# EAGLE library part ESP32-TTGO-TDISPLAY (library EPS32_TTGO_TDISPLAY)
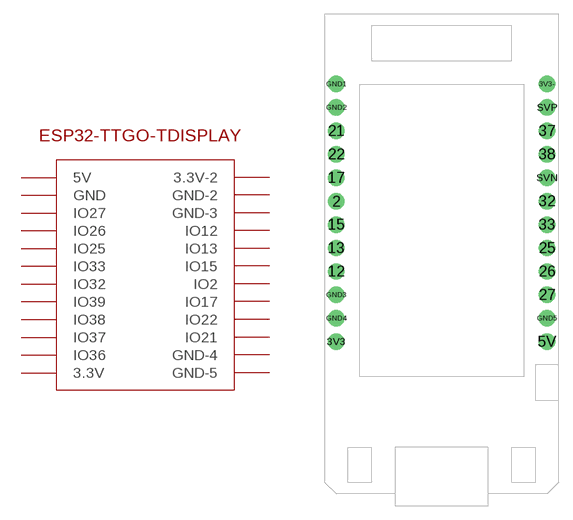
[diagram p0: symbol with the pads of ESP32-TTGO-TDISPLAY; footprint ESP32-TTGO-TDISPLAY]

Designator prefix -

## ESP32-TTGO-TDISPLAY  [ESP32-TTGO-TDISPLAY]
2  IO2
3V3  3.3V  pwr
3V3-  3.3V-2  pwr
5V  5V  pwr
12  IO12
13  IO13
15  IO15
17  IO17
21  IO21
22  IO22
25  IO25
26  IO26
27  IO27
32  IO32
33  IO33
37  IO37
38  IO38
GND1  GND  pwr
GND2  GND-2  pwr
GND3  GND-3  pwr
GND4  GND-4  pwr
GND5  GND-5  pwr
SVN  IO39
SVP  IO36

## Footprint ESP32-TTGO-TDISPLAY (pad centres in mm)
drill 1.143 pad 1.778: 2 0,15.24; 3V3 0,0; 12 0,7.62; 13 0,10.16; 15 0,12.7; 17 0,17.78; 21 0,22.86; 22 0,20.32; GND1 0,27.94; GND2 0,25.4; GND3 0,5.08; GND4 0,2.54
drill 1.016 pad 1.778: 3V3- 22.86,27.94; 5V 22.86,0; 25 22.86,10.16; 26 22.86,7.62; 27 22.86,5.08; 32 22.86,15.24; 33 22.86,12.7; 37 22.86,22.86; 38 22.86,20.32; GND5 22.86,2.54; SVN 22.86,17.78; SVP 22.86,25.4